# EAGLE library part 87520 (library 00ese323)
TYPE-A Receptacle, FCI
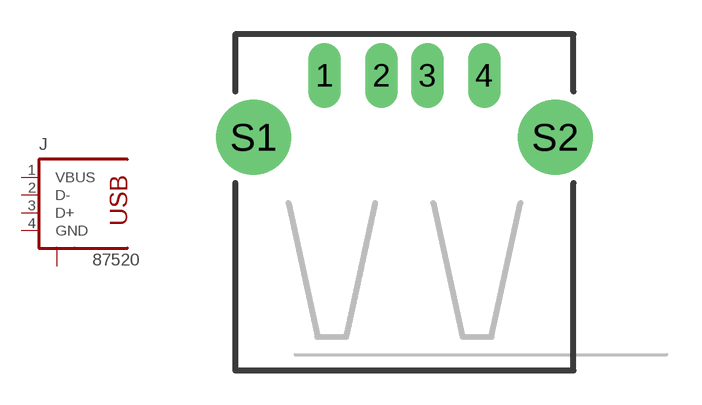
[diagram p3: symbol with the pads of 87520; footprint 87520]

Designator prefix J

## 87520  [87520]
1  VBUS  pas
2  D-  pas
3  D+  pas
4  GND  pas
S1  S1  pas
S2  S2  pas

## Footprint 87520 (pad centres in mm)
FCI - 87520 Series
drill 0.914 long: 1 -3.5,2.71; 2 -1,2.71; 3 1,2.71; 4 3.5,2.71
drill 2.261: S1 -6.6,0; S2 6.6,0